# Altium integrated library Dallas Communication Transceiver.IntLib: 39 symbols
Pins are listed as number, name and electrical type; pins without a type are passive.

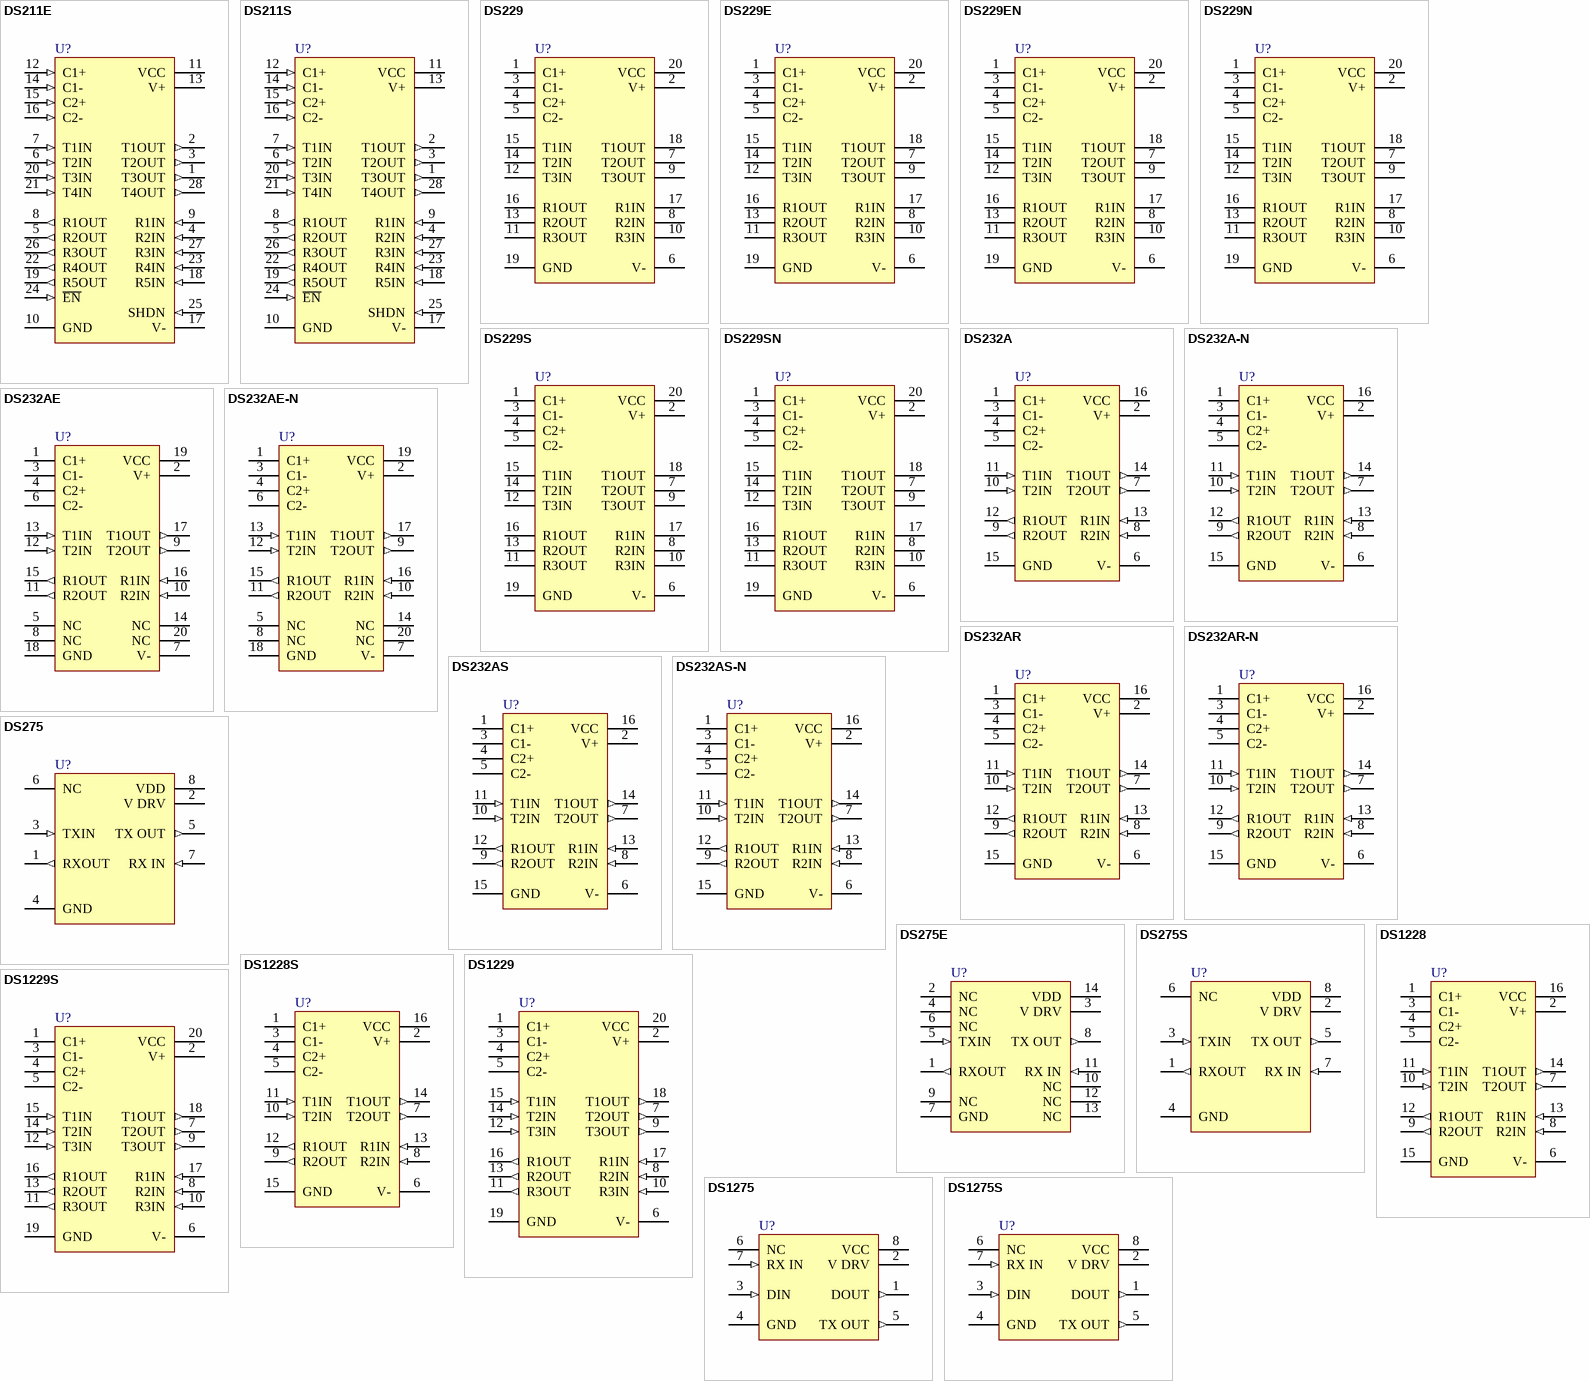
[diagram p0: symbols DS211E to DS1275S]

## DS211E
designator U?
4 Driver/5 Receiver RS-232 Serial Port; Published: 13-Oct-2000; LatestRevisionDate: 20-Nov-2009; LatestRevisionNote: IPC-7351 Footprint Added.; DatasheetVersion: 15-Mar-1995; PackageVersion: Feb-1999; PackageReference: SSOP28; Publisher: Altium Limited; PackageDescription: 28-Pin Plastic Small Outline Package 0.65 mm Pitch; Code_JEDEC: MO-150-AH; Code_IPC: SOP65P780-28; ComponentLink1Description: Manufacturer Link; ComponentLink1URL: http://www.maxim-ic.com/
footprint SSOP28_N (SOP, 28-Leads, Body 10.2x5.3mm, Pitch 0.65mm, IPC Medium Density)
footprint SSOP28_L (SOP, 28-Leads, Body 10.2x5.3mm, Pitch 0.65mm, IPC High Density)
footprint SSOP28_M (SOP, 28-Leads, Body 10.2x5.3mm, Pitch 0.65mm, IPC Low Density)
pins: 1 T3OUT (out), 2 T1OUT (out), 3 T2OUT (out), 4 R2IN (in), 5 R2OUT (out), 6 T2IN (in), 7 T1IN (in), 8 R1OUT (out), 9 R1IN (in), 10 GND (power), 11 VCC (power), 12 C1+ (in), 13 V+ (power), 14 C1- (in), 15 C2+ (in), 16 C2- (in), 17 V- (power), 18 R5IN (in), 19 R5OUT (out), 20 T3IN (in), 21 T4IN (in), 22 R4OUT (out), 23 R4IN (in), 24 ~{EN} (in), 25 SHDN (in), 26 R3OUT (out), 27 R3IN (in), 28 T4OUT (out)

## DS211S
designator U?
4 Driver/5 Receiver RS-232 Serial Port; Published: 13-Oct-2000; LatestRevisionDate: 13-Apr-2006; LatestRevisionNote: IPC-7351 Footprint Added.; DatasheetVersion: 15-Mar-1995; PackageVersion: 1999; PackageReference: SOIC28N; Publisher: Altium Limited; PackageDescription: 28-Pin Small Outline Integrated Circuit 1.27 mm Pitch; ComponentLink1Description: Manufacturer Link; ComponentLink1URL: http://www.maxim-ic.com/
footprint SOIC28N_N (SOIC, 28-Leads, Body 17.9x7.5mm, Pitch 1.27mm, IPC Medium Density)
footprint SOIC28N_L (SOIC, 28-Leads, Body 17.9x7.5mm, Pitch 1.27mm, IPC High Density)
footprint SOIC28N_M (SOIC, 28-Leads, Body 17.9x7.5mm, Pitch 1.27mm, IPC Low Density)
pins: 1 T3OUT (out), 2 T1OUT (out), 3 T2OUT (out), 4 R2IN (in), 5 R2OUT (out), 6 T2IN (in), 7 T1IN (in), 8 R1OUT (out), 9 R1IN (in), 10 GND (power), 11 VCC (power), 12 C1+ (in), 13 V+ (power), 14 C1- (in), 15 C2+ (in), 16 C2- (in), 17 V- (power), 18 R5IN (in), 19 R5OUT (out), 20 T3IN (in), 21 T4IN (in), 22 R4OUT (out), 23 R4IN (in), 24 ~{EN} (in), 25 SHDN (in), 26 R3OUT (out), 27 R3IN (in), 28 T4OUT (out)

## DS229
designator U?
Triple RS-232 Transmitter/Receiver; Published: 13-Oct-2000; LatestRevisionDate: 17-Jul-2002; LatestRevisionNote: Re-released for DXP Platform.; DatasheetVersion: 19-Feb-1998; PackageVersion: 1999; PackageReference: DIP20; Publisher: Altium Limited; PackageDescription: DIP, 20-Pin, Row Spacing 7.62 mm, Pitch 2.54 mm; Code_JEDEC: MS-001-AD; ComponentLink1Description: Manufacturer Link; ComponentLink1URL: http://www.maxim-ic.com/; ComponentLink2Description: Datasheet; ComponentLink2URL: http://pdfserv.maxim-ic.com/en/ds/DS229.pdf
footprint DIP20 (DIP, 20-Leads, Row Spacing 7.62mm, Pitch 2.54mm, Body 25.53x6.48mm)
pins: 1 C1+, 2 V+ (power), 3 C1-, 4 C2+, 5 C2-, 6 V- (power), 7 T2OUT, 8 R2IN, 9 T3OUT, 10 R3IN, 11 R3OUT, 12 T3IN, 13 R2OUT, 14 T2IN, 15 T1IN, 16 R1OUT, 17 R1IN, 18 T1OUT, 19 GND (power), 20 VCC (power)

## DS229E
designator U?
Triple RS-232 Transmitter/Receiver; Published: 13-Oct-2000; LatestRevisionDate: 20-Nov-2009; LatestRevisionNote: IPC-7351 Footprint Added.; DatasheetVersion: 19-Feb-1998; PackageReference: TSSOP20; Publisher: Altium Limited; PackageDescription: 20-Pin Thin Small Outline Package 0.65 mm Pitch; ComponentLink1Description: Manufacturer Link; ComponentLink1URL: http://www.maxim-ic.com/; ComponentLink2Description: Datasheet; ComponentLink2URL: http://pdfserv.maxim-ic.com/en/ds/DS229.pdf
footprint TSSOP20_N (TSOP, 20-Leads, Body 6.5x4.4mm, Pitch 0.65mm, IPC Medium Density)
footprint TSSOP20_L (TSOP, 20-Leads, Body 6.5x4.4mm, Pitch 0.65mm, IPC High Density)
footprint TSSOP20_M (TSOP, 20-Leads, Body 6.5x4.4mm, Pitch 0.65mm, IPC Low Density)
pins: 1 C1+, 2 V+ (power), 3 C1-, 4 C2+, 5 C2-, 6 V- (power), 7 T2OUT, 8 R2IN, 9 T3OUT, 10 R3IN, 11 R3OUT, 12 T3IN, 13 R2OUT, 14 T2IN, 15 T1IN, 16 R1OUT, 17 R1IN, 18 T1OUT, 19 GND (power), 20 VCC (power)

## DS229EN
designator U?
Triple RS-232 Transmitter/Receiver; Published: 13-Oct-2000; LatestRevisionDate: 20-Nov-2009; LatestRevisionNote: IPC-7351 Footprint Added.; DatasheetVersion: 19-Feb-1998; PackageReference: TSSOP20; Publisher: Altium Limited; PackageDescription: 20-Pin Thin Small Outline Package 0.65 mm Pitch; ComponentLink1Description: Manufacturer Link; ComponentLink1URL: http://www.maxim-ic.com/; ComponentLink2Description: Datasheet; ComponentLink2URL: http://pdfserv.maxim-ic.com/en/ds/DS229.pdf
footprint TSSOP20_N (TSOP, 20-Leads, Body 6.5x4.4mm, Pitch 0.65mm, IPC Medium Density)
footprint TSSOP20_L (TSOP, 20-Leads, Body 6.5x4.4mm, Pitch 0.65mm, IPC High Density)
footprint TSSOP20_M (TSOP, 20-Leads, Body 6.5x4.4mm, Pitch 0.65mm, IPC Low Density)
pins: 1 C1+, 2 V+ (power), 3 C1-, 4 C2+, 5 C2-, 6 V- (power), 7 T2OUT, 8 R2IN, 9 T3OUT, 10 R3IN, 11 R3OUT, 12 T3IN, 13 R2OUT, 14 T2IN, 15 T1IN, 16 R1OUT, 17 R1IN, 18 T1OUT, 19 GND (power), 20 VCC (power)

## DS229N
designator U?
Triple RS-232 Transmitter/Receiver; Published: 13-Oct-2000; LatestRevisionDate: 17-Jul-2002; LatestRevisionNote: Re-released for DXP Platform.; DatasheetVersion: 19-Feb-1998; PackageVersion: 1999; PackageReference: DIP20; Publisher: Altium Limited; PackageDescription: DIP, 20-Pin, Row Spacing 7.62 mm, Pitch 2.54 mm; Code_JEDEC: MS-001-AD; ComponentLink1Description: Manufacturer Link; ComponentLink1URL: http://www.maxim-ic.com/; ComponentLink2Description: Datasheet; ComponentLink2URL: http://pdfserv.maxim-ic.com/en/ds/DS229.pdf
footprint DIP20 (DIP, 20-Leads, Row Spacing 7.62mm, Pitch 2.54mm, Body 25.53x6.48mm)
pins: 1 C1+, 2 V+ (power), 3 C1-, 4 C2+, 5 C2-, 6 V- (power), 7 T2OUT, 8 R2IN, 9 T3OUT, 10 R3IN, 11 R3OUT, 12 T3IN, 13 R2OUT, 14 T2IN, 15 T1IN, 16 R1OUT, 17 R1IN, 18 T1OUT, 19 GND (power), 20 VCC (power)

## DS229S
designator U?
Triple RS-232 Transmitter/Receiver; Published: 13-Oct-2000; LatestRevisionDate: 13-Apr-2006; LatestRevisionNote: IPC-7351 Footprint Added.; DatasheetVersion: 19-Feb-1998; PackageVersion: 1999; PackageReference: SOIC20; Publisher: Altium Limited; PackageDescription: 20-Pin Small Outline Integrated Circuit 1.27 mm Pitch; ComponentLink1Description: Manufacturer Link; ComponentLink1URL: http://www.maxim-ic.com/; ComponentLink2Description: Datasheet; ComponentLink2URL: http://pdfserv.maxim-ic.com/en/ds/DS229.pdf
footprint SOIC20_N (SOIC, 20-Leads, Body 12.8x7.5mm, Pitch 1.27mm, IPC Medium Density)
footprint SOIC20_L (SOIC, 20-Leads, Body 12.8x7.5mm, Pitch 1.27mm, IPC High Density)
footprint SOIC20_M (SOIC, 20-Leads, Body 12.8x7.5mm, Pitch 1.27mm, IPC Low Density)
pins: 1 C1+, 2 V+ (power), 3 C1-, 4 C2+, 5 C2-, 6 V- (power), 7 T2OUT, 8 R2IN, 9 T3OUT, 10 R3IN, 11 R3OUT, 12 T3IN, 13 R2OUT, 14 T2IN, 15 T1IN, 16 R1OUT, 17 R1IN, 18 T1OUT, 19 GND (power), 20 VCC (power)

## DS229SN
designator U?
Triple RS-232 Transmitter/Receiver; Published: 13-Oct-2000; LatestRevisionDate: 13-Apr-2006; LatestRevisionNote: IPC-7351 Footprint Added.; DatasheetVersion: 19-Feb-1998; PackageVersion: 1999; PackageReference: SOIC20; Publisher: Altium Limited; PackageDescription: 20-Pin Small Outline Integrated Circuit 1.27 mm Pitch; ComponentLink1Description: Manufacturer Link; ComponentLink1URL: http://www.maxim-ic.com/; ComponentLink2Description: Datasheet; ComponentLink2URL: http://pdfserv.maxim-ic.com/en/ds/DS229.pdf
footprint SOIC20_N (SOIC, 20-Leads, Body 12.8x7.5mm, Pitch 1.27mm, IPC Medium Density)
footprint SOIC20_L (SOIC, 20-Leads, Body 12.8x7.5mm, Pitch 1.27mm, IPC High Density)
footprint SOIC20_M (SOIC, 20-Leads, Body 12.8x7.5mm, Pitch 1.27mm, IPC Low Density)
pins: 1 C1+, 2 V+ (power), 3 C1-, 4 C2+, 5 C2-, 6 V- (power), 7 T2OUT, 8 R2IN, 9 T3OUT, 10 R3IN, 11 R3OUT, 12 T3IN, 13 R2OUT, 14 T2IN, 15 T1IN, 16 R1OUT, 17 R1IN, 18 T1OUT, 19 GND (power), 20 VCC (power)

## DS232A
designator U?
Dual RS-232 Transmitter/Receiver; Published: 13-Oct-2000; LatestRevisionDate: 17-Jul-2002; LatestRevisionNote: Re-released for DXP Platform.; DatasheetVersion: 19-Feb-1998; PackageVersion: 1999; PackageReference: DIP16; Publisher: Altium Limited; PackageDescription: DIP, 16-Pin, Row Spacing 7.62 mm, Pitch 2.54 mm; ComponentLink1Description: Manufacturer Link; ComponentLink1URL: http://www.maxim-ic.com/; ComponentLink2Description: Datasheet; ComponentLink2URL: http://pdfserv.maxim-ic.com/en/ds/DS232A.pdf
footprint DIP16 (DIP, 16-Leads, Row Spacing 7.62mm, Pitch 2.54mm, Body 19.31x6.35mm)
pins: 1 C1+, 2 V+ (power), 3 C1-, 4 C2+, 5 C2-, 6 V- (power), 7 T2OUT (out), 8 R2IN (in), 9 R2OUT (out), 10 T2IN (in), 11 T1IN (in), 12 R1OUT (out), 13 R1IN (in), 14 T1OUT (out), 15 GND (power), 16 VCC (power)

## DS232A-N
designator U?
Dual RS-232 Transmitter/Receiver; Published: 13-Oct-2000; LatestRevisionDate: 17-Jul-2002; LatestRevisionNote: Re-released for DXP Platform.; DatasheetVersion: 19-Feb-1998; PackageVersion: 1999; PackageReference: DIP16; Publisher: Altium Limited; PackageDescription: DIP, 16-Pin, Row Spacing 7.62 mm, Pitch 2.54 mm; ComponentLink1Description: Manufacturer Link; ComponentLink1URL: http://www.maxim-ic.com/; ComponentLink2Description: Datasheet; ComponentLink2URL: http://pdfserv.maxim-ic.com/en/ds/DS232A.pdf
footprint DIP16 (DIP, 16-Leads, Row Spacing 7.62mm, Pitch 2.54mm, Body 19.31x6.35mm)
pins: 1 C1+, 2 V+ (power), 3 C1-, 4 C2+, 5 C2-, 6 V- (power), 7 T2OUT (out), 8 R2IN (in), 9 R2OUT (out), 10 T2IN (in), 11 T1IN (in), 12 R1OUT (out), 13 R1IN (in), 14 T1OUT (out), 15 GND (power), 16 VCC (power)

## DS232AE
designator U?
Dual RS-232 Transmitter/Receiver; Note: Pin numbers 5, 8, 14 and 20 are Not Connected (NC); Published: 13-Oct-2000; LatestRevisionDate: 20-Nov-2009; LatestRevisionNote: IPC-7351 Footprint Added.; DatasheetVersion: 19-Feb-1998; PackageReference: TSSOP20; Publisher: Altium Limited; PackageDescription: 20-Pin Thin Small Outline Package 0.65 mm Pitch; ComponentLink1Description: Manufacturer Link; ComponentLink1URL: http://www.maxim-ic.com/; ComponentLink2Description: Datasheet; ComponentLink2URL: http://pdfserv.maxim-ic.com/en/ds/DS232A.pdf
footprint TSSOP20_N (TSOP, 20-Leads, Body 6.5x4.4mm, Pitch 0.65mm, IPC Medium Density)
footprint TSSOP20_L (TSOP, 20-Leads, Body 6.5x4.4mm, Pitch 0.65mm, IPC High Density)
footprint TSSOP20_M (TSOP, 20-Leads, Body 6.5x4.4mm, Pitch 0.65mm, IPC Low Density)
pins: 1 C1+, 2 V+ (power), 3 C1-, 4 C2+, 5 NC, 6 C2-, 7 V- (power), 8 NC, 9 T2OUT (out), 10 R2IN (in), 11 R2OUT (out), 12 T2IN (in), 13 T1IN (in), 14 NC, 15 R1OUT (out), 16 R1IN (in), 17 T1OUT (out), 18 GND (power), 19 VCC (power), 20 NC

## DS232AE-N
designator U?
Dual RS-232 Transmitter/Receiver; Note: Pin numbers 5, 8, 14 and 20 are Not Connected (NC); Published: 13-Oct-2000; LatestRevisionDate: 20-Nov-2009; LatestRevisionNote: IPC-7351 Footprint Added.; DatasheetVersion: 19-Feb-1998; PackageReference: TSSOP20; Publisher: Altium Limited; PackageDescription: 20-Pin Thin Small Outline Package 0.65 mm Pitch; ComponentLink1Description: Manufacturer Link; ComponentLink1URL: http://www.maxim-ic.com/; ComponentLink2Description: Datasheet; ComponentLink2URL: http://pdfserv.maxim-ic.com/en/ds/DS232A.pdf
footprint TSSOP20_N (TSOP, 20-Leads, Body 6.5x4.4mm, Pitch 0.65mm, IPC Medium Density)
footprint TSSOP20_L (TSOP, 20-Leads, Body 6.5x4.4mm, Pitch 0.65mm, IPC High Density)
footprint TSSOP20_M (TSOP, 20-Leads, Body 6.5x4.4mm, Pitch 0.65mm, IPC Low Density)
pins: 1 C1+, 2 V+ (power), 3 C1-, 4 C2+, 5 NC, 6 C2-, 7 V- (power), 8 NC, 9 T2OUT (out), 10 R2IN (in), 11 R2OUT (out), 12 T2IN (in), 13 T1IN (in), 14 NC, 15 R1OUT (out), 16 R1IN (in), 17 T1OUT (out), 18 GND (power), 19 VCC (power), 20 NC

## DS232AR
designator U?
Dual RS-232 Transmitter/Receiver; Published: 13-Oct-2000; LatestRevisionDate: 13-Apr-2006; LatestRevisionNote: IPC-7351 Footprint Added.; DatasheetVersion: 19-Feb-1998; PackageVersion: 1999; PackageReference: SOIC16N; Publisher: Altium Limited; PackageDescription: 16-Pin Small Outline Integrated Circuit 1.27 mm Pitch; Code_IPC: SOIC127P600-16; ComponentLink1Description: Manufacturer Link; ComponentLink1URL: http://www.maxim-ic.com/; ComponentLink2Description: Datasheet; ComponentLink2URL: http://pdfserv.maxim-ic.com/en/ds/DS232A.pdf
footprint SOIC16N_N (SOIC, 16-Leads, Body 9.9x3.9mm, Pitch 1.27mm, IPC Medium Density)
footprint SOIC16N_L (SOIC, 16-Leads, Body 9.9x3.9mm, Pitch 1.27mm, IPC High Density)
footprint SOIC16N_M (SOIC, 16-Leads, Body 9.9x3.9mm, Pitch 1.27mm, IPC Low Density)
pins: 1 C1+, 2 V+ (power), 3 C1-, 4 C2+, 5 C2-, 6 V- (power), 7 T2OUT (out), 8 R2IN (in), 9 R2OUT (out), 10 T2IN (in), 11 T1IN (in), 12 R1OUT (out), 13 R1IN (in), 14 T1OUT (out), 15 GND (power), 16 VCC (power)

## DS232AR-N
designator U?
Dual RS-232 Transmitter/Receiver; Published: 13-Oct-2000; LatestRevisionDate: 13-Apr-2006; LatestRevisionNote: IPC-7351 Footprint Added.; DatasheetVersion: 19-Feb-1998; PackageVersion: 1999; PackageReference: SOIC16N; Publisher: Altium Limited; PackageDescription: 16-Pin Small Outline Integrated Circuit 1.27 mm Pitch; Code_IPC: SOIC127P600-16; ComponentLink1Description: Manufacturer Link; ComponentLink1URL: http://www.maxim-ic.com/; ComponentLink2Description: Datasheet; ComponentLink2URL: http://pdfserv.maxim-ic.com/en/ds/DS232A.pdf
footprint SOIC16N_N (SOIC, 16-Leads, Body 9.9x3.9mm, Pitch 1.27mm, IPC Medium Density)
footprint SOIC16N_L (SOIC, 16-Leads, Body 9.9x3.9mm, Pitch 1.27mm, IPC High Density)
footprint SOIC16N_M (SOIC, 16-Leads, Body 9.9x3.9mm, Pitch 1.27mm, IPC Low Density)
pins: 1 C1+, 2 V+ (power), 3 C1-, 4 C2+, 5 C2-, 6 V- (power), 7 T2OUT (out), 8 R2IN (in), 9 R2OUT (out), 10 T2IN (in), 11 T1IN (in), 12 R1OUT (out), 13 R1IN (in), 14 T1OUT (out), 15 GND (power), 16 VCC (power)

## DS232AS
designator U?
Dual RS-232 Transmitter/Receiver; Published: 13-Oct-2000; LatestRevisionDate: 13-Apr-2006; LatestRevisionNote: IPC-7351 Footprint Added.; DatasheetVersion: 19-Feb-1998; PackageVersion: 1999; PackageReference: SOIC16W; Publisher: Altium Limited; PackageDescription: 16-Pin Small Outline Integrated Circuit 1.27 mm Pitch; ComponentLink1Description: Manufacturer Link; ComponentLink1URL: http://www.maxim-ic.com/; ComponentLink2Description: Datasheet; ComponentLink2URL: http://pdfserv.maxim-ic.com/en/ds/DS232A.pdf
footprint SOIC16W_N (SOIC, 16-Leads, Body 10.3x7.5mm, Pitch 1.27mm, IPC Medium Density)
footprint SOIC16W_L (SOIC, 16-Leads, Body 10.3x7.5mm, Pitch 1.27mm, IPC High Density)
footprint SOIC16W_M (SOIC, 16-Leads, Body 10.3x7.5mm, Pitch 1.27mm, IPC Low Density)
pins: 1 C1+, 2 V+ (power), 3 C1-, 4 C2+, 5 C2-, 6 V- (power), 7 T2OUT (out), 8 R2IN (in), 9 R2OUT (out), 10 T2IN (in), 11 T1IN (in), 12 R1OUT (out), 13 R1IN (in), 14 T1OUT (out), 15 GND (power), 16 VCC (power)

## DS232AS-N
designator U?
Dual RS-232 Transmitter/Receiver; Published: 13-Oct-2000; LatestRevisionDate: 13-Apr-2006; LatestRevisionNote: IPC-7351 Footprint Added.; DatasheetVersion: 19-Feb-1998; PackageVersion: 1999; PackageReference: SOIC16W; Publisher: Altium Limited; PackageDescription: 16-Pin Small Outline Integrated Circuit 1.27 mm Pitch; ComponentLink1Description: Manufacturer Link; ComponentLink1URL: http://www.maxim-ic.com/; ComponentLink2Description: Datasheet; ComponentLink2URL: http://pdfserv.maxim-ic.com/en/ds/DS232A.pdf
footprint SOIC16W_N (SOIC, 16-Leads, Body 10.3x7.5mm, Pitch 1.27mm, IPC Medium Density)
footprint SOIC16W_L (SOIC, 16-Leads, Body 10.3x7.5mm, Pitch 1.27mm, IPC High Density)
footprint SOIC16W_M (SOIC, 16-Leads, Body 10.3x7.5mm, Pitch 1.27mm, IPC Low Density)
pins: 1 C1+, 2 V+ (power), 3 C1-, 4 C2+, 5 C2-, 6 V- (power), 7 T2OUT (out), 8 R2IN (in), 9 R2OUT (out), 10 T2IN (in), 11 T1IN (in), 12 R1OUT (out), 13 R1IN (in), 14 T1OUT (out), 15 GND (power), 16 VCC (power)

## DS275
designator U?
Line-Powered RS-232 Transceiver Chip; Note: Pin number 6 is Not Connected (NC); Published: 13-Oct-2000; LatestRevisionDate: 17-Jul-2002; LatestRevisionNote: Re-released for DXP Platform.; DatasheetVersion: 6-Mar-1998; PackageVersion: 1999; PackageReference: DIP8; Publisher: Altium Limited; PackageDescription: DIP, 8-Pin, Row Spacing 7.62 mm, Pitch 2.54 mm; ComponentLink1Description: Manufacturer Link; ComponentLink1URL: http://www.maxim-ic.com/; ComponentLink2Description: Datasheet; ComponentLink2URL: http://pdfserv.maxim-ic.com/en/ds/DS275.pdf
footprint DIP8 (DIP, 8-Leads, Row Spacing 7.62mm, Pitch 2.54mm, Body 9.65x6.35mm)
pins: 1 RXOUT (out), 2 V DRV (power), 3 TXIN (in), 4 GND (power), 5 TX OUT (out), 6 NC, 7 RX IN (in), 8 VDD (power)

## DS275E
designator U?
Line-Powered RS-232 Transceiver Chip; Note: Pin numbers 2, 4, 6, 9, 10, 12 and 13 are Not Connected (NC); Published: 13-Oct-2000; LatestRevisionDate: 20-Nov-2009; LatestRevisionNote: IPC-7351 Footprint Added.; DatasheetVersion: 6-Mar-1998; PackageReference: TSSOP14; Publisher: Altium Limited; PackageDescription: 14-Pin Thin Small Outline Package 0.65 mm Pitch; ComponentLink1Description: Manufacturer Link; ComponentLink1URL: http://www.maxim-ic.com/; ComponentLink2Description: Datasheet; ComponentLink2URL: http://pdfserv.maxim-ic.com/en/ds/DS275.pdf
footprint TSSOP14_N (TSOP, 14-Leads, Body 5x4.4mm, Pitch 0.65mm, IPC Medium Density)
footprint TSSOP14_L (TSOP, 14-Leads, Body 5x4.4mm, Pitch 0.65mm, IPC High Density)
footprint TSSOP14_M (TSOP, 14-Leads, Body 5x4.4mm, Pitch 0.65mm, IPC Low Density)
pins: 1 RXOUT (out), 2 NC, 3 V DRV (power), 4 NC, 5 TXIN (in), 6 NC, 7 GND (power), 8 TX OUT (out), 9 NC, 10 NC, 11 RX IN (in), 12 NC, 13 NC, 14 VDD (power)

## DS275S
designator U?
Line-Powered RS-232 Transceiver Chip; Note: Pin number 6 is Not Connected (NC); Published: 13-Oct-2000; LatestRevisionDate: 13-Apr-2006; LatestRevisionNote: IPC-7351 Footprint Added.; DatasheetVersion: 6-Mar-1998; PackageVersion: 1999; PackageReference: SOIC8N; Publisher: Altium Limited; PackageDescription: 8-Pin Small Outline Integrated Circuit 1.27 mm Pitch; Code_IPC: SOIC127P600-8; ComponentLink1Description: Manufacturer Link; ComponentLink1URL: http://www.maxim-ic.com/; ComponentLink2Description: Datasheet; ComponentLink2URL: http://pdfserv.maxim-ic.com/en/ds/DS275.pdf
footprint SOIC8N_N (SOIC, 8-Leads, Body 4.9x3.9mm, Pitch 1.27mm, IPC Medium Density)
footprint SOIC8N_L (SOIC, 8-Leads, Body 4.9x3.9mm, Pitch 1.27mm, IPC High Density)
footprint SOIC8N_M (SOIC, 8-Leads, Body 4.9x3.9mm, Pitch 1.27mm, IPC Low Density)
pins: 1 RXOUT (out), 2 V DRV (power), 3 TXIN (in), 4 GND (power), 5 TX OUT (out), 6 NC, 7 RX IN (in), 8 VDD (power)

## DS1228
designator U?
+5V Powered Dual RS-232 Transmitter/Receiver; Published: 13-Oct-2000; LatestRevisionDate: 17-Jul-2002; LatestRevisionNote: Re-released for DXP Platform.; DatasheetVersion: 1989; PackageVersion: 1999; PackageReference: DIP16; Publisher: Altium Limited; PackageDescription: DIP, 16-Pin, Row Spacing 7.62 mm, Pitch 2.54 mm; ComponentLink1Description: Manufacturer Link; ComponentLink1URL: http://www.maxim-ic.com/
footprint DIP16 (DIP, 16-Leads, Row Spacing 7.62mm, Pitch 2.54mm, Body 19.31x6.35mm)
pins: 1 C1+, 2 V+ (power), 3 C1-, 4 C2+, 5 C2-, 6 V- (power), 7 T2OUT (out), 8 R2IN (in), 9 R2OUT (out), 10 T2IN (in), 11 T1IN (in), 12 R1OUT (out), 13 R1IN (in), 14 T1OUT (out), 15 GND (power), 16 VCC (power)

## DS1228S
designator U?
+5V Powered Dual RS-232 Transmitter/Receiver; Published: 13-Oct-2000; LatestRevisionDate: 13-Apr-2006; LatestRevisionNote: IPC-7351 Footprint Added.; DatasheetVersion: 1989; PackageVersion: 1999; PackageReference: SOIC16W; Publisher: Altium Limited; PackageDescription: 16-Pin Small Outline Integrated Circuit 1.27 mm Pitch; ComponentLink1Description: Manufacturer Link; ComponentLink1URL: http://www.maxim-ic.com/
footprint SOIC16W_N (SOIC, 16-Leads, Body 10.3x7.5mm, Pitch 1.27mm, IPC Medium Density)
footprint SOIC16W_L (SOIC, 16-Leads, Body 10.3x7.5mm, Pitch 1.27mm, IPC High Density)
footprint SOIC16W_M (SOIC, 16-Leads, Body 10.3x7.5mm, Pitch 1.27mm, IPC Low Density)
pins: 1 C1+, 2 V+ (power), 3 C1-, 4 C2+, 5 C2-, 6 V- (power), 7 T2OUT (out), 8 R2IN (in), 9 R2OUT (out), 10 T2IN (in), 11 T1IN (in), 12 R1OUT (out), 13 R1IN (in), 14 T1OUT (out), 15 GND (power), 16 VCC (power)

## DS1229
designator U?
+5V Powered Triple RS-232 Transmitter/Receiver; Published: 13-Oct-2000; LatestRevisionDate: 17-Jul-2002; LatestRevisionNote: Re-released for DXP Platform.; DatasheetVersion: 17-Feb-1992; PackageVersion: 1999; PackageReference: DIP20; Publisher: Altium Limited; PackageDescription: DIP, 20-Pin, Row Spacing 7.62 mm, Pitch 2.54 mm; Code_JEDEC: MS-001-AD; ComponentLink1Description: Manufacturer Link; ComponentLink1URL: http://www.maxim-ic.com/
footprint DIP20 (DIP, 20-Leads, Row Spacing 7.62mm, Pitch 2.54mm, Body 25.53x6.48mm)
pins: 1 C1+, 2 V+ (power), 3 C1-, 4 C2+, 5 C2-, 6 V- (power), 7 T2OUT (out), 8 R2IN (in), 9 T3OUT (out), 10 R3IN (in), 11 R3OUT (out), 12 T3IN (in), 13 R2OUT (out), 14 T2IN (in), 15 T1IN (in), 16 R1OUT (out), 17 R1IN (in), 18 T1OUT (out), 19 GND (power), 20 VCC (power)

## DS1229S
designator U?
+5V Powered Triple RS-232 Transmitter/Receiver; Published: 13-Oct-2000; LatestRevisionDate: 13-Apr-2006; LatestRevisionNote: IPC-7351 Footprint Added.; DatasheetVersion: 17-Feb-1992; PackageVersion: 1999; PackageReference: SOIC20; Publisher: Altium Limited; PackageDescription: 20-Pin Small Outline Integrated Circuit 1.27 mm Pitch; ComponentLink1Description: Manufacturer Link; ComponentLink1URL: http://www.maxim-ic.com/
footprint SOIC20_N (SOIC, 20-Leads, Body 12.8x7.5mm, Pitch 1.27mm, IPC Medium Density)
footprint SOIC20_L (SOIC, 20-Leads, Body 12.8x7.5mm, Pitch 1.27mm, IPC High Density)
footprint SOIC20_M (SOIC, 20-Leads, Body 12.8x7.5mm, Pitch 1.27mm, IPC Low Density)
pins: 1 C1+, 2 V+ (power), 3 C1-, 4 C2+, 5 C2-, 6 V- (power), 7 T2OUT (out), 8 R2IN (in), 9 T3OUT (out), 10 R3IN (in), 11 R3OUT (out), 12 T3IN (in), 13 R2OUT (out), 14 T2IN (in), 15 T1IN (in), 16 R1OUT (out), 17 R1IN (in), 18 T1OUT (out), 19 GND (power), 20 VCC (power)

## DS1275
designator U?
Line-Powered RS-232 Transceiver Chip; Note: Pin number 6 is Not Connected (NC); Published: 13-Oct-2000; LatestRevisionDate: 17-Jul-2002; LatestRevisionNote: Re-released for DXP Platform.; DatasheetVersion: 5-Feb-1992; PackageVersion: 1999; PackageReference: DIP8; Publisher: Altium Limited; PackageDescription: DIP, 8-Pin, Row Spacing 7.62 mm, Pitch 2.54 mm; ComponentLink1Description: Manufacturer Link; ComponentLink1URL: http://www.maxim-ic.com/
footprint DIP8 (DIP, 8-Leads, Row Spacing 7.62mm, Pitch 2.54mm, Body 9.65x6.35mm)
pins: 1 DOUT (out), 2 V DRV (power), 3 DIN (in), 4 GND (power), 5 TX OUT (out), 6 NC, 7 RX IN (in), 8 VCC (power)

## DS1275S
designator U?
Line-Powered RS-232 Transceiver Chip; Note: Pin number 6 is Not Connected (NC); Published: 13-Oct-2000; LatestRevisionDate: 13-Apr-2006; LatestRevisionNote: IPC-7351 Footprint Added.; DatasheetVersion: 5-Feb-1992; PackageVersion: 1999; PackageReference: SOIC8N; Publisher: Altium Limited; PackageDescription: 8-Pin Small Outline Integrated Circuit 1.27 mm Pitch; Code_IPC: SOIC127P600-8; ComponentLink1Description: Manufacturer Link; ComponentLink1URL: http://www.maxim-ic.com/
footprint SOIC8N_N (SOIC, 8-Leads, Body 4.9x3.9mm, Pitch 1.27mm, IPC Medium Density)
footprint SOIC8N_L (SOIC, 8-Leads, Body 4.9x3.9mm, Pitch 1.27mm, IPC High Density)
footprint SOIC8N_M (SOIC, 8-Leads, Body 4.9x3.9mm, Pitch 1.27mm, IPC Low Density)
pins: 1 DOUT (out), 2 V DRV (power), 3 DIN (in), 4 GND (power), 5 TX OUT (out), 6 NC, 7 RX IN (in), 8 VCC (power)

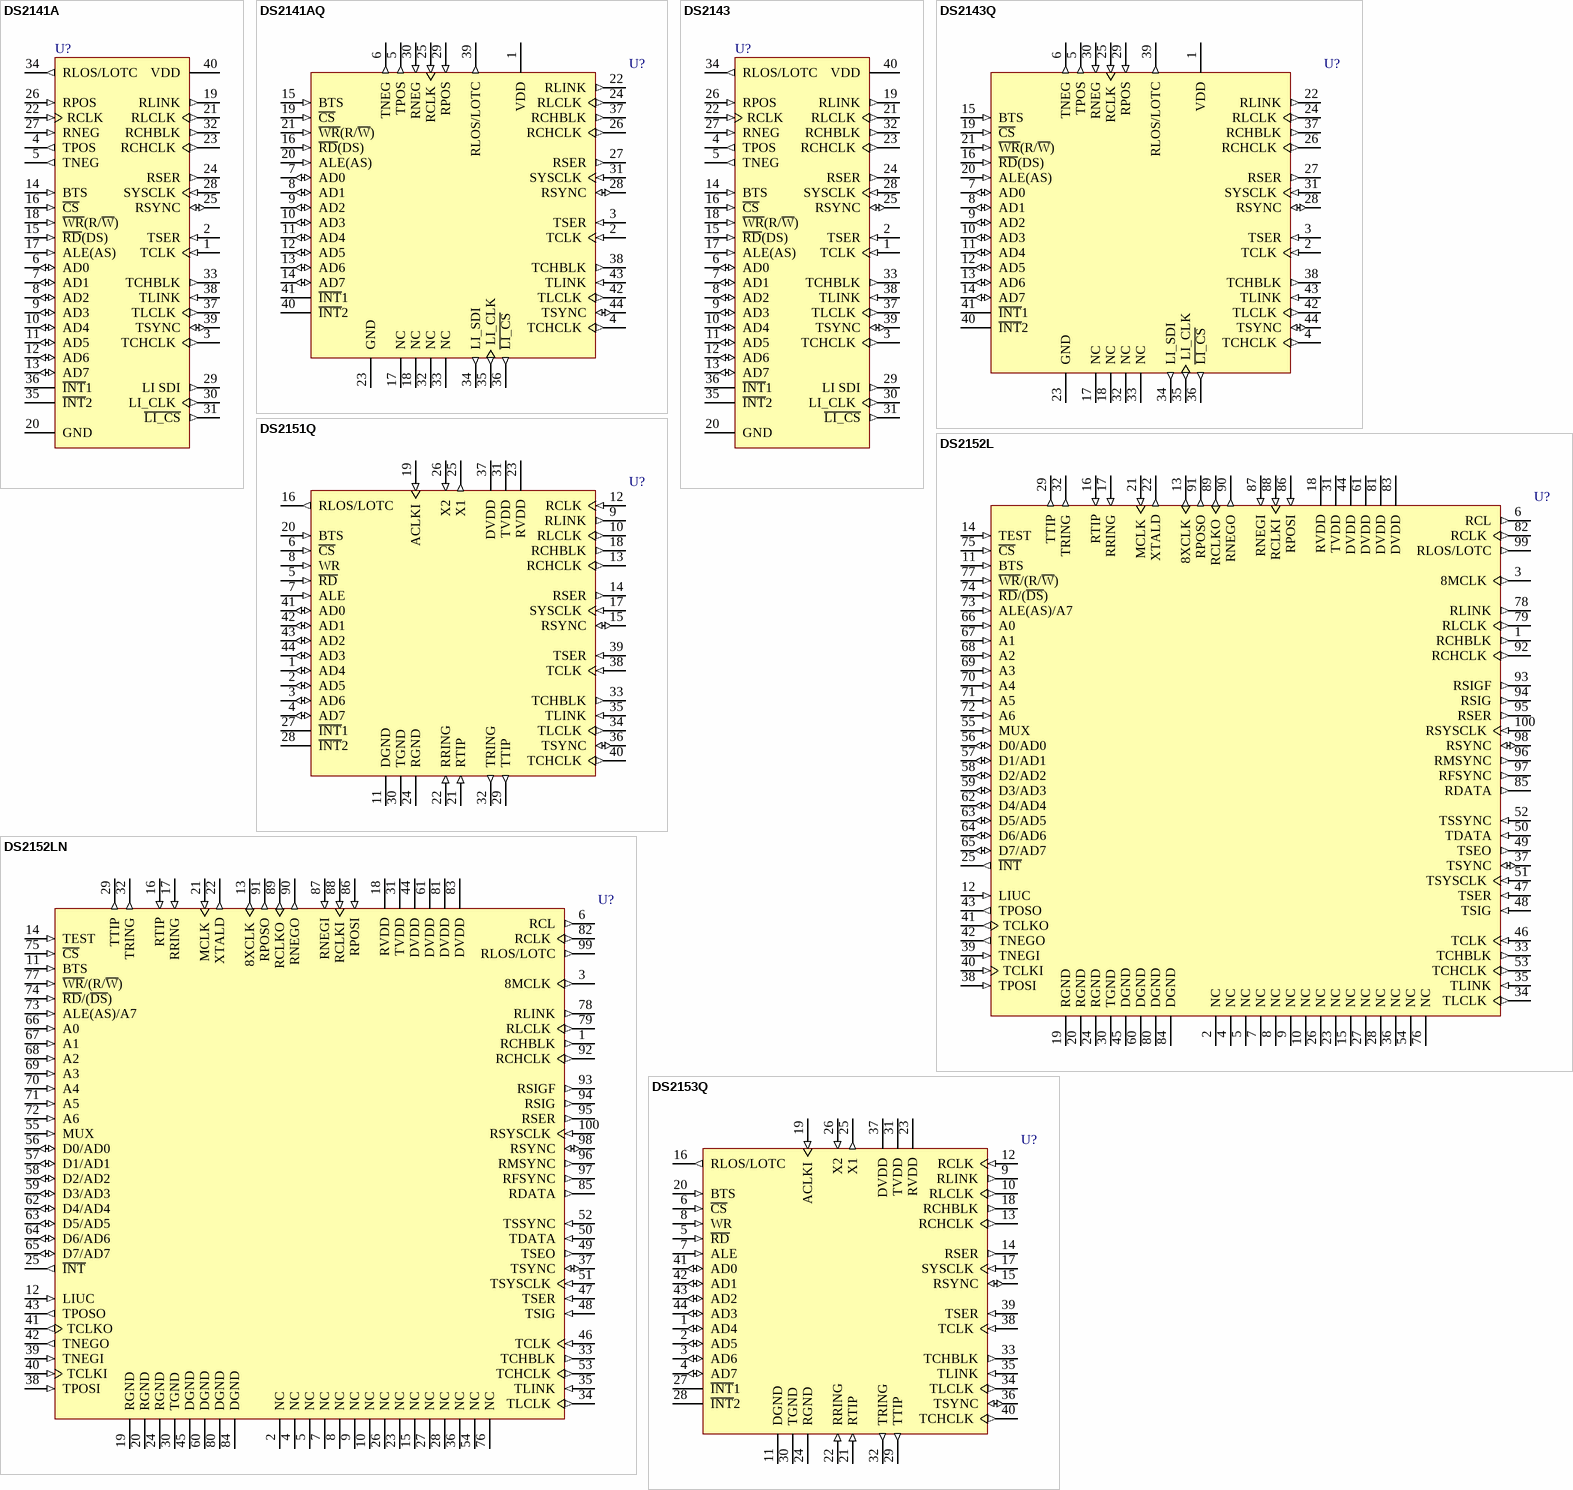
[diagram p1: symbols DS2141A to DS2153Q]

## DS2141A
designator U?
T1 Controller; Published: 13-Oct-2000; LatestRevisionDate: 17-Jul-2002; LatestRevisionNote: Re-released for DXP Platform.; DatasheetVersion: 26-Feb-1998; PackageVersion: 1998; PackageReference: DIP40A; Publisher: Altium Limited; PackageDescription: DIP, 40-Pin, Row Spacing 15.24 mm, Pitch 2.54 mm; ComponentLink1Description: Manufacturer Link; ComponentLink1URL: http://www.maxim-ic.com/; ComponentLink2Description: Datasheet; ComponentLink2URL: http://pdfserv.maxim-ic.com/en/ds/DS2141A.pdf
footprint DIP40A (DIP, 40-Leads, Row Spacing 15.24mm, Pitch 2.54mm, Body 52.2x13.84mm)
pins: 1 TCLK (in), 2 TSER (in), 3 TCHCLK (out), 4 TPOS (out), 5 TNEG (out), 6 AD0 (io), 7 AD1 (io), 8 AD2 (io), 9 AD3 (io), 10 AD4 (io), 11 AD5 (io), 12 AD6 (io), 13 AD7 (io), 14 BTS (in), 15 ~{RD}(DS) (in), 16 ~{CS} (in), 17 ALE(AS) (in), 18 ~{WR}(R/~{W}) (in), 19 RLINK (out), 20 GND (power), 21 RLCLK (out), 22 RCLK (in), 23 RCHCLK (out), 24 RSER (out), 25 RSYNC (io), 26 RPOS (in), 27 RNEG (in), 28 SYSCLK (in), 29 LI SDI (out), 30 LI_CLK (out), 31 ~{LI_CS} (out), 32 RCHBLK (out), 33 TCHBLK (out), 34 RLOS/LOTC (out), 35 ~{INT}2 (oc), 36 ~{INT}1 (oc), 37 TLCLK (out), 38 TLINK (in), 39 TSYNC (io), 40 VDD (power)

## DS2141AQ
designator U?
T1 Controller; Note: Pin numbers 17, 18, 32 and 33 are Not Connected (NC); Published: 13-Oct-2000; LatestRevisionDate: 13-Apr-2006; LatestRevisionNote: IPC-7351 Footprint Added.; DatasheetVersion: 26-Feb-1998; PackageVersion: 1999; PackageReference: PLCC44; Publisher: Altium Limited; PackageDescription: 44-Pin Leaded Chip Carrier 1.27 mm Pitch; Code_IPC: PLCC-44; ComponentLink1Description: Manufacturer Link; ComponentLink1URL: http://www.maxim-ic.com/; ComponentLink2Description: Datasheet; ComponentLink2URL: http://pdfserv.maxim-ic.com/en/ds/DS2141A.pdf
footprint PLCC44_N (Leaded Chip Carrier, 44-Leads, Body 16.6x16.6mm, Pitch 1.27mm, IPC Medium Density)
footprint PLCC44_L (Leaded Chip Carrier, 44-Leads, Body 16.6x16.6mm, Pitch 1.27mm, IPC High Density)
footprint PLCC44_M (Leaded Chip Carrier, 44-Leads, Body 16.6x16.6mm, Pitch 1.27mm, IPC Low Density)
pins: 1 VDD (power), 2 TCLK (in), 3 TSER (in), 4 TCHCLK (out), 5 TPOS (out), 6 TNEG (out), 7 AD0 (io), 8 AD1 (io), 9 AD2 (io), 10 AD3 (io), 11 AD4 (io), 12 AD5 (io), 13 AD6 (io), 14 AD7 (io), 15 BTS (in), 16 ~{RD}(DS) (in), 17 NC, 18 NC, 19 ~{CS} (in), 20 ALE(AS) (in), 21 ~{WR}(R/~{W}) (in), 22 RLINK (out), 23 GND (power), 24 RLCLK (out), 25 RCLK (in), 26 RCHCLK (out), 27 RSER (out), 28 RSYNC (io), 29 RPOS (in), 30 RNEG (in), 31 SYSCLK (in), 32 NC, 33 NC, 34 LI_SDI (out), 35 LI_CLK (out), 36 ~{LI_CS} (out), 37 RCHBLK (out), 38 TCHBLK (out), 39 RLOS/LOTC (out), 40 ~{INT}2 (oc), 41 ~{INT}1 (oc), 42 TLCLK (out), 43 TLINK (in), 44 TSYNC (io)

## DS2143
designator U?
E1 Controller; Published: 13-Oct-2000; LatestRevisionDate: 17-Jul-2002; LatestRevisionNote: Re-released for DXP Platform.; DatasheetVersion: 26-Feb-1998; PackageVersion: 1998; PackageReference: DIP40A; Publisher: Altium Limited; PackageDescription: DIP, 40-Pin, Row Spacing 15.24 mm, Pitch 2.54 mm; ComponentLink1Description: Manufacturer Link; ComponentLink1URL: http://www.maxim-ic.com/; ComponentLink2Description: Datasheet; ComponentLink2URL: http://pdfserv.maxim-ic.com/en/ds/DS2143-DS2143Q.pdf
footprint DIP40A (DIP, 40-Leads, Row Spacing 15.24mm, Pitch 2.54mm, Body 52.2x13.84mm)
pins: 1 TCLK (in), 2 TSER (in), 3 TCHCLK (out), 4 TPOS (out), 5 TNEG (out), 6 AD0 (io), 7 AD1 (io), 8 AD2 (io), 9 AD3 (io), 10 AD4 (io), 11 AD5 (io), 12 AD6 (io), 13 AD7 (io), 14 BTS (in), 15 ~{RD}(DS) (in), 16 ~{CS} (in), 17 ALE(AS) (in), 18 ~{WR}(R/~{W}) (in), 19 RLINK (out), 20 GND (power), 21 RLCLK (out), 22 RCLK (in), 23 RCHCLK (out), 24 RSER (out), 25 RSYNC (io), 26 RPOS (in), 27 RNEG (in), 28 SYSCLK (in), 29 LI SDI (out), 30 LI_CLK (out), 31 ~{LI_CS} (out), 32 RCHBLK (out), 33 TCHBLK (out), 34 RLOS/LOTC (out), 35 ~{INT}2 (oc), 36 ~{INT}1 (oc), 37 TLCLK (out), 38 TLINK (in), 39 TSYNC (io), 40 VDD (power)

## DS2143Q
designator U?
E1 Controller; Note: Pin numbers 17, 18, 32 and 33 are Not Connected (NC); Published: 13-Oct-2000; LatestRevisionDate: 13-Apr-2006; LatestRevisionNote: IPC-7351 Footprint Added.; DatasheetVersion: 26-Feb-1998; PackageVersion: 1999; PackageReference: PLCC44; Publisher: Altium Limited; PackageDescription: 44-Pin Leaded Chip Carrier 1.27 mm Pitch; Code_IPC: PLCC-44; ComponentLink1Description: Manufacturer Link; ComponentLink1URL: http://www.maxim-ic.com/; ComponentLink2Description: Datasheet; ComponentLink2URL: http://pdfserv.maxim-ic.com/en/ds/DS2143-DS2143Q.pdf
footprint PLCC44_N (Leaded Chip Carrier, 44-Leads, Body 16.6x16.6mm, Pitch 1.27mm, IPC Medium Density)
footprint PLCC44_L (Leaded Chip Carrier, 44-Leads, Body 16.6x16.6mm, Pitch 1.27mm, IPC High Density)
footprint PLCC44_M (Leaded Chip Carrier, 44-Leads, Body 16.6x16.6mm, Pitch 1.27mm, IPC Low Density)
pins: 1 VDD (power), 2 TCLK (in), 3 TSER (in), 4 TCHCLK (out), 5 TPOS (out), 6 TNEG (out), 7 AD0 (io), 8 AD1 (io), 9 AD2 (io), 10 AD3 (io), 11 AD4 (io), 12 AD5 (io), 13 AD6 (io), 14 AD7 (io), 15 BTS (in), 16 ~{RD}(DS) (in), 17 NC, 18 NC, 19 ~{CS} (in), 20 ALE(AS) (in), 21 ~{WR}(R/~{W}) (in), 22 RLINK (out), 23 GND (power), 24 RLCLK (out), 25 RCLK (in), 26 RCHCLK (out), 27 RSER (out), 28 RSYNC (io), 29 RPOS (in), 30 RNEG (in), 31 SYSCLK (in), 32 NC, 33 NC, 34 LI_SDI (out), 35 LI_CLK (out), 36 ~{LI_CS} (out), 37 RCHBLK (out), 38 TCHBLK (out), 39 RLOS/LOTC (out), 40 ~{INT}2 (oc), 41 ~{INT}1 (oc), 42 TLCLK (out), 43 TLINK (in), 44 TSYNC (io)

## DS2151Q
designator U?
T1 Single-Chip Transceiver; Published: 13-Oct-2000; LatestRevisionDate: 13-Apr-2006; LatestRevisionNote: IPC-7351 Footprint Added.; DatasheetVersion: 14-Mar-1994; PackageVersion: 1999; PackageReference: PLCC44; Publisher: Altium Limited; PackageDescription: 44-Pin Leaded Chip Carrier 1.27 mm Pitch; Code_IPC: PLCC-44; ComponentLink1Description: Manufacturer Link; ComponentLink1URL: http://www.maxim-ic.com/; ComponentLink2Description: Datasheet; ComponentLink2URL: http://pdfserv.maxim-ic.com/en/ds/DS2151Q.pdf
footprint PLCC44_N (Leaded Chip Carrier, 44-Leads, Body 16.6x16.6mm, Pitch 1.27mm, IPC Medium Density)
footprint PLCC44_L (Leaded Chip Carrier, 44-Leads, Body 16.6x16.6mm, Pitch 1.27mm, IPC High Density)
footprint PLCC44_M (Leaded Chip Carrier, 44-Leads, Body 16.6x16.6mm, Pitch 1.27mm, IPC Low Density)
pins: 1 AD4 (io), 2 AD5 (io), 3 AD6 (io), 4 AD7 (io), 5 ~{RD} (in), 6 ~{CS} (in), 7 ALE (in), 8 WR (in), 9 RLINK (out), 10 RLCLK (out), 11 DGND (power), 12 RCLK (in), 13 RCHCLK (out), 14 RSER (out), 15 RSYNC (io), 16 RLOS/LOTC (out), 17 SYSCLK (in), 18 RCHBLK (out), 19 ACLKI (in), 20 BTS (in), 21 RTIP (in), 22 RRING (in), 23 RVDD (power), 24 RGND (power), 25 X1 (out), 26 X2 (in), 27 ~{INT}1 (oc), 28 ~{INT}2 (oc), 29 TTIP (out), 30 TGND (power), 31 TVDD (power), 32 TRING (out), 33 TCHBLK (out), 34 TLCLK (out), 35 TLINK (in), 36 TSYNC (io), 37 DVDD (power), 38 TCLK (in), 39 TSER (in), 40 TCHCLK (out), 41 AD0 (io), 42 AD1 (io), 43 AD2 (io), 44 AD3 (io)

## DS2152L
designator U?
Enhanced T1 Single-Chip Transceiver; Note: Pin numbers 2, 4, 5, 7-10, 15, 23, 26-28, 36, 54 and 76 are Not Connected (NC); Published: 13-Oct-2000; LatestRevisionDate: 13-Apr-2006; LatestRevisionNote: IPC-7351 Footprint Added.; DatasheetVersion: 22-Sep-1999; PackageReference: LQFP100; Publisher: Altium Limited; PackageDescription: 100-Pin Thin Quad Flat Pack 0.5 mm Pitch; ComponentLink1Description: Manufacturer Link; ComponentLink1URL: http://www.maxim-ic.com/; ComponentLink2Description: Datasheet; ComponentLink2URL: http://pdfserv.maxim-ic.com/en/ds/DS2152.pdf
footprint LQFP100_N (Thin QFP, 100-Leads, Body 14x14mm, Pitch 0.5mm, IPC Medium Density)
footprint LQFP100_L (Thin QFP, 100-Leads, Body 14x14mm, Pitch 0.5mm, IPC High Density)
footprint LQFP100_M (Thin QFP, 100-Leads, Body 14x14mm, Pitch 0.5mm, IPC Low Density)
pins: 1 RCHBLK (out), 2 NC, 3 8MCLK (out), 4 NC, 5 NC, 6 RCL (out), 7 NC, 8 NC, 9 NC, 10 NC, 11 BTS (in), 12 LIUC (in), 13 8XCLK (out), 14 TEST (in), 15 NC, 16 RTIP (in), 17 RRING (in), 18 RVDD (power), 19 RGND (power), 20 RGND (power), 21 MCLK (in), 22 XTALD (out), 23 NC, 24 RGND (power), 25 ~{INT} (out), 26 NC, 27 NC, 28 NC, 29 TTIP (out), 30 TGND (power), 31 TVDD (power), 32 TRING (out), 33 TCHBLK (out), 34 TLCLK (out), 35 TLINK (in), 36 NC, 37 TSYNC (io), 38 TPOSI (in), 39 TNEGI (in), 40 TCLKI (in), 41 TCLKO (out), 42 TNEGO (out), 43 TPOSO (out), 44 DVDD (power), 45 DGND (power), 46 TCLK (in), 47 TSER (in), 48 TSIG (in), 49 TSEO (out), 50 TDATA (in), 51 TSYSCLK (in), 52 TSSYNC (in), 53 TCHCLK (out), 54 NC, 55 MUX (in), 56 D0/AD0 (io), 57 D1/AD1 (io), 58 D2/AD2 (io), 59 D3/AD3 (io), 60 DGND (power), 61 DVDD (power), 62 D4/AD4 (io), 63 D5/AD5 (io), 64 D6/AD6 (io), 65 D7/AD7 (io), 66 A0 (in), 67 A1 (in), 68 A2 (in), 69 A3 (in), 70 A4 (in), 71 A5 (in), 72 A6 (in), 73 ALE(AS)/A7 (in), 74 ~{RD}/(~{DS}) (in), 75 ~{CS} (in), 76 NC, 77 ~{WR}/(R/~{W}) (in), 78 RLINK (out), 79 RLCLK (out), 80 DGND (power), 81 DVDD (power), 82 RCLK (out), 83 DVDD (power), 84 DGND (power), 85 RDATA (out), 86 RPOSI (in), 87 RNEGI (in), 88 RCLKI (in), 89 RCLKO (out), 90 RNEGO (out), 91 RPOSO (out), 92 RCHCLK (out), 93 RSIGF (out), 94 RSIG (out), 95 RSER (out), 96 RMSYNC (out), 97 RFSYNC (out), 98 RSYNC (io), 99 RLOS/LOTC (out), 100 RSYSCLK (in)

## DS2152LN
designator U?
Enhanced T1 Single-Chip Transceiver; Note: Pin numbers 2, 4, 5, 7-10, 15, 23, 26-28, 36, 54 and 76 are Not Connected (NC); Published: 13-Oct-2000; LatestRevisionDate: 13-Apr-2006; LatestRevisionNote: IPC-7351 Footprint Added.; DatasheetVersion: 22-Sep-1999; PackageReference: LQFP100; Publisher: Altium Limited; PackageDescription: 100-Pin Thin Quad Flat Pack 0.5 mm Pitch; ComponentLink1Description: Manufacturer Link; ComponentLink1URL: http://www.maxim-ic.com/; ComponentLink2Description: Datasheet; ComponentLink2URL: http://pdfserv.maxim-ic.com/en/ds/DS2152.pdf
footprint LQFP100_N (Thin QFP, 100-Leads, Body 14x14mm, Pitch 0.5mm, IPC Medium Density)
footprint LQFP100_L (Thin QFP, 100-Leads, Body 14x14mm, Pitch 0.5mm, IPC High Density)
footprint LQFP100_M (Thin QFP, 100-Leads, Body 14x14mm, Pitch 0.5mm, IPC Low Density)
pins: 1 RCHBLK (out), 2 NC, 3 8MCLK (out), 4 NC, 5 NC, 6 RCL (out), 7 NC, 8 NC, 9 NC, 10 NC, 11 BTS (in), 12 LIUC (in), 13 8XCLK (out), 14 TEST (in), 15 NC, 16 RTIP (in), 17 RRING (in), 18 RVDD (power), 19 RGND (power), 20 RGND (power), 21 MCLK (in), 22 XTALD (out), 23 NC, 24 RGND (power), 25 ~{INT} (out), 26 NC, 27 NC, 28 NC, 29 TTIP (out), 30 TGND (power), 31 TVDD (power), 32 TRING (out), 33 TCHBLK (out), 34 TLCLK (out), 35 TLINK (in), 36 NC, 37 TSYNC (io), 38 TPOSI (in), 39 TNEGI (in), 40 TCLKI (in), 41 TCLKO (out), 42 TNEGO (out), 43 TPOSO (out), 44 DVDD (power), 45 DGND (power), 46 TCLK (in), 47 TSER (in), 48 TSIG (in), 49 TSEO (out), 50 TDATA (in), 51 TSYSCLK (in), 52 TSSYNC (in), 53 TCHCLK (out), 54 NC, 55 MUX (in), 56 D0/AD0 (io), 57 D1/AD1 (io), 58 D2/AD2 (io), 59 D3/AD3 (io), 60 DGND (power), 61 DVDD (power), 62 D4/AD4 (io), 63 D5/AD5 (io), 64 D6/AD6 (io), 65 D7/AD7 (io), 66 A0 (in), 67 A1 (in), 68 A2 (in), 69 A3 (in), 70 A4 (in), 71 A5 (in), 72 A6 (in), 73 ALE(AS)/A7 (in), 74 ~{RD}/(~{DS}) (in), 75 ~{CS} (in), 76 NC, 77 ~{WR}/(R/~{W}) (in), 78 RLINK (out), 79 RLCLK (out), 80 DGND (power), 81 DVDD (power), 82 RCLK (out), 83 DVDD (power), 84 DGND (power), 85 RDATA (out), 86 RPOSI (in), 87 RNEGI (in), 88 RCLKI (in), 89 RCLKO (out), 90 RNEGO (out), 91 RPOSO (out), 92 RCHCLK (out), 93 RSIGF (out), 94 RSIG (out), 95 RSER (out), 96 RMSYNC (out), 97 RFSYNC (out), 98 RSYNC (io), 99 RLOS/LOTC (out), 100 RSYSCLK (in)

## DS2153Q
designator U?
E1 Single-Chip Transceiver; Published: 13-Oct-2000; LatestRevisionDate: 13-Apr-2006; LatestRevisionNote: IPC-7351 Footprint Added.; DatasheetVersion: 15-Mar-1994; PackageVersion: 1999; PackageReference: PLCC44; Publisher: Altium Limited; PackageDescription: 44-Pin Leaded Chip Carrier 1.27 mm Pitch; Code_IPC: PLCC-44; ComponentLink1Description: Manufacturer Link; ComponentLink1URL: http://www.maxim-ic.com/; ComponentLink2Description: Datasheet; ComponentLink2URL: http://pdfserv.maxim-ic.com/en/ds/DS2153Q.pdf
footprint PLCC44_N (Leaded Chip Carrier, 44-Leads, Body 16.6x16.6mm, Pitch 1.27mm, IPC Medium Density)
footprint PLCC44_L (Leaded Chip Carrier, 44-Leads, Body 16.6x16.6mm, Pitch 1.27mm, IPC High Density)
footprint PLCC44_M (Leaded Chip Carrier, 44-Leads, Body 16.6x16.6mm, Pitch 1.27mm, IPC Low Density)
pins: 1 AD4 (io), 2 AD5 (io), 3 AD6 (io), 4 AD7 (io), 5 ~{RD} (in), 6 ~{CS} (in), 7 ALE (in), 8 WR (in), 9 RLINK (out), 10 RLCLK (out), 11 DGND (power), 12 RCLK (in), 13 RCHCLK (out), 14 RSER (out), 15 RSYNC (io), 16 RLOS/LOTC (out), 17 SYSCLK (in), 18 RCHBLK (out), 19 ACLKI (in), 20 BTS (in), 21 RTIP (in), 22 RRING (in), 23 RVDD (power), 24 RGND (power), 25 X1 (out), 26 X2 (in), 27 ~{INT}1 (oc), 28 ~{INT}2 (oc), 29 TTIP (out), 30 TGND (power), 31 TVDD (power), 32 TRING (out), 33 TCHBLK (out), 34 TLCLK (out), 35 TLINK (in), 36 TSYNC (io), 37 DVDD (power), 38 TCLK (in), 39 TSER (in), 40 TCHCLK (out), 41 AD0 (io), 42 AD1 (io), 43 AD2 (io), 44 AD3 (io)

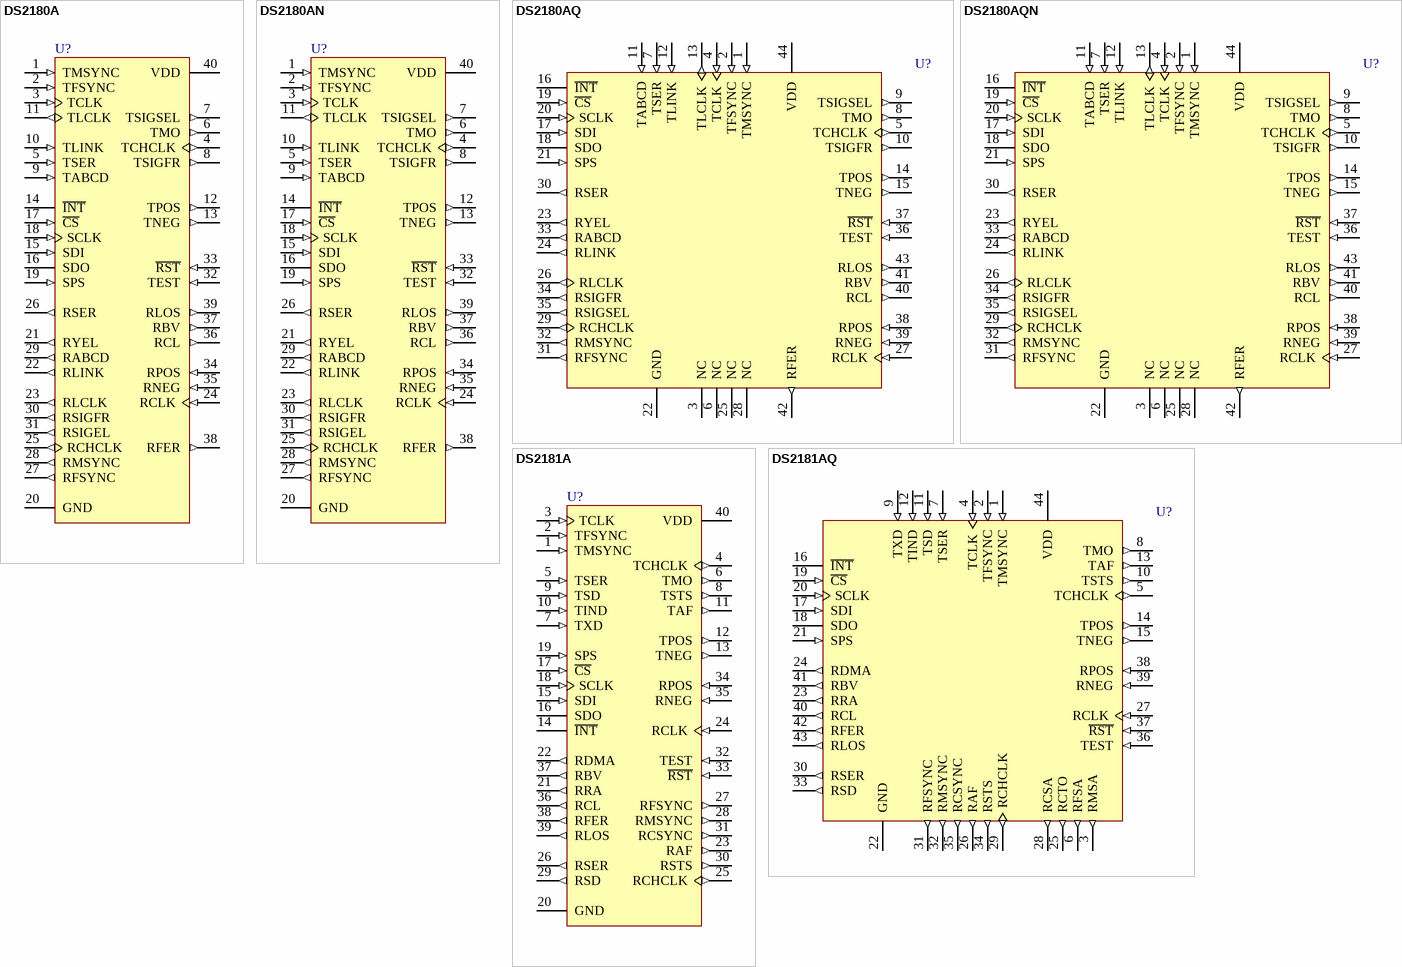
[diagram p2: symbols DS2180A to DS2181AQ]

## DS2180A
designator U?
T1 Transceiver; Published: 13-Oct-2000; LatestRevisionDate: 17-Jul-2002; LatestRevisionNote: Re-released for DXP Platform.; DatasheetVersion: 27-Feb-1998; PackageVersion: 1999; PackageReference: DIP40; Publisher: Altium Limited; PackageDescription: DIP, 40-Pin, Row Spacing 15.24 mm, Pitch 2.54 mm; ComponentLink1Description: Manufacturer Link; ComponentLink1URL: http://www.maxim-ic.com/; ComponentLink2Description: Datasheet; ComponentLink2URL: http://pdfserv.maxim-ic.com/en/ds/DS2180A-DS2180AQN.pdf
footprint DIP40 (DIP, 40-Leads, Row Spacing 15.24mm, Pitch 2.54mm, Body 52.39x13.72mm)
pins: 1 TMSYNC (in), 2 TFSYNC (in), 3 TCLK (in), 4 TCHCLK (out), 5 TSER (in), 6 TMO (out), 7 TSIGSEL (out), 8 TSIGFR (out), 9 TABCD (in), 10 TLINK (in), 11 TLCLK (out), 12 TPOS (out), 13 TNEG (out), 14 ~{INT} (oc), 15 SDI (in), 16 SDO (hiz), 17 ~{CS} (in), 18 SCLK (in), 19 SPS (in), 20 GND (power), 21 RYEL (out), 22 RLINK (out), 23 RLCLK (out), 24 RCLK (in), 25 RCHCLK (out), 26 RSER (out), 27 RFSYNC (out), 28 RMSYNC (out), 29 RABCD (out), 30 RSIGFR (out), 31 RSIGEL (out), 32 TEST (in), 33 ~{RST} (in), 34 RPOS (in), 35 RNEG (in), 36 RCL (out), 37 RBV (out), 38 RFER (out), 39 RLOS (out), 40 VDD (power)

## DS2180AN
designator U?
T1 Transceiver; Published: 13-Oct-2000; LatestRevisionDate: 17-Jul-2002; LatestRevisionNote: Re-released for DXP Platform.; DatasheetVersion: 27-Feb-1998; PackageVersion: 1999; PackageReference: DIP40; Publisher: Altium Limited; PackageDescription: DIP, 40-Pin, Row Spacing 15.24 mm, Pitch 2.54 mm; ComponentLink1Description: Manufacturer Link; ComponentLink1URL: http://www.maxim-ic.com/; ComponentLink2Description: Datasheet; ComponentLink2URL: http://pdfserv.maxim-ic.com/en/ds/DS2180A-DS2180AQN.pdf
footprint DIP40 (DIP, 40-Leads, Row Spacing 15.24mm, Pitch 2.54mm, Body 52.39x13.72mm)
pins: 1 TMSYNC (in), 2 TFSYNC (in), 3 TCLK (in), 4 TCHCLK (out), 5 TSER (in), 6 TMO (out), 7 TSIGSEL (out), 8 TSIGFR (out), 9 TABCD (in), 10 TLINK (in), 11 TLCLK (out), 12 TPOS (out), 13 TNEG (out), 14 ~{INT} (oc), 15 SDI (in), 16 SDO (hiz), 17 ~{CS} (in), 18 SCLK (in), 19 SPS (in), 20 GND (power), 21 RYEL (out), 22 RLINK (out), 23 RLCLK (out), 24 RCLK (in), 25 RCHCLK (out), 26 RSER (out), 27 RFSYNC (out), 28 RMSYNC (out), 29 RABCD (out), 30 RSIGFR (out), 31 RSIGEL (out), 32 TEST (in), 33 ~{RST} (in), 34 RPOS (in), 35 RNEG (in), 36 RCL (out), 37 RBV (out), 38 RFER (out), 39 RLOS (out), 40 VDD (power)

## DS2180AQ
designator U?
T1 Transceiver; Note: Pin numbers 3, 6, 25 and 28 are Not Connected (NC); Published: 13-Oct-2000; LatestRevisionDate: 13-Apr-2006; LatestRevisionNote: IPC-7351 Footprint Added.; DatasheetVersion: 27-Feb-1998; PackageVersion: 1999; PackageReference: PLCC44; Publisher: Altium Limited; PackageDescription: 44-Pin Leaded Chip Carrier 1.27 mm Pitch; Code_IPC: PLCC-44; ComponentLink1Description: Manufacturer Link; ComponentLink1URL: http://www.maxim-ic.com/; ComponentLink2Description: Datasheet; ComponentLink2URL: http://pdfserv.maxim-ic.com/en/ds/DS2180A-DS2180AQN.pdf
footprint PLCC44_N (Leaded Chip Carrier, 44-Leads, Body 16.6x16.6mm, Pitch 1.27mm, IPC Medium Density)
footprint PLCC44_L (Leaded Chip Carrier, 44-Leads, Body 16.6x16.6mm, Pitch 1.27mm, IPC High Density)
footprint PLCC44_M (Leaded Chip Carrier, 44-Leads, Body 16.6x16.6mm, Pitch 1.27mm, IPC Low Density)
pins: 1 TMSYNC (in), 2 TFSYNC (in), 3 NC, 4 TCLK (in), 5 TCHCLK (out), 6 NC, 7 TSER (in), 8 TMO (out), 9 TSIGSEL (out), 10 TSIGFR (out), 11 TABCD (in), 12 TLINK (in), 13 TLCLK (out), 14 TPOS (out), 15 TNEG (out), 16 ~{INT} (oc), 17 SDI (in), 18 SDO (hiz), 19 ~{CS} (in), 20 SCLK (in), 21 SPS (in), 22 GND (power), 23 RYEL (out), 24 RLINK (out), 25 NC, 26 RLCLK (out), 27 RCLK (in), 28 NC, 29 RCHCLK (out), 30 RSER (out), 31 RFSYNC (out), 32 RMSYNC (out), 33 RABCD (out), 34 RSIGFR (out), 35 RSIGSEL (out), 36 TEST (in), 37 ~{RST} (in), 38 RPOS (in), 39 RNEG (in), 40 RCL (out), 41 RBV (out), 42 RFER (out), 43 RLOS (out), 44 VDD (power)

## DS2180AQN
designator U?
T1 Transceiver; Note: Pin numbers 3, 6, 25 and 28 are Not Connected (NC); Published: 13-Oct-2000; LatestRevisionDate: 13-Apr-2006; LatestRevisionNote: IPC-7351 Footprint Added.; DatasheetVersion: 27-Feb-1998; PackageVersion: 1999; PackageReference: PLCC44; Publisher: Altium Limited; PackageDescription: 44-Pin Leaded Chip Carrier 1.27 mm Pitch; Code_IPC: PLCC-44; ComponentLink1Description: Manufacturer Link; ComponentLink1URL: http://www.maxim-ic.com/; ComponentLink2Description: Datasheet; ComponentLink2URL: http://pdfserv.maxim-ic.com/en/ds/DS2180A-DS2180AQN.pdf
footprint PLCC44_N (Leaded Chip Carrier, 44-Leads, Body 16.6x16.6mm, Pitch 1.27mm, IPC Medium Density)
footprint PLCC44_L (Leaded Chip Carrier, 44-Leads, Body 16.6x16.6mm, Pitch 1.27mm, IPC High Density)
footprint PLCC44_M (Leaded Chip Carrier, 44-Leads, Body 16.6x16.6mm, Pitch 1.27mm, IPC Low Density)
pins: 1 TMSYNC (in), 2 TFSYNC (in), 3 NC, 4 TCLK (in), 5 TCHCLK (out), 6 NC, 7 TSER (in), 8 TMO (out), 9 TSIGSEL (out), 10 TSIGFR (out), 11 TABCD (in), 12 TLINK (in), 13 TLCLK (out), 14 TPOS (out), 15 TNEG (out), 16 ~{INT} (oc), 17 SDI (in), 18 SDO (hiz), 19 ~{CS} (in), 20 SCLK (in), 21 SPS (in), 22 GND (power), 23 RYEL (out), 24 RLINK (out), 25 NC, 26 RLCLK (out), 27 RCLK (in), 28 NC, 29 RCHCLK (out), 30 RSER (out), 31 RFSYNC (out), 32 RMSYNC (out), 33 RABCD (out), 34 RSIGFR (out), 35 RSIGSEL (out), 36 TEST (in), 37 ~{RST} (in), 38 RPOS (in), 39 RNEG (in), 40 RCL (out), 41 RBV (out), 42 RFER (out), 43 RLOS (out), 44 VDD (power)

## DS2181A
designator U?
CEPT Primary Rate Transceiver; Published: 13-Oct-2000; LatestRevisionDate: 17-Jul-2002; LatestRevisionNote: Re-released for DXP Platform.; DatasheetVersion: 27-Feb-1998; PackageVersion: 1999; PackageReference: DIP40; Publisher: Altium Limited; PackageDescription: DIP, 40-Pin, Row Spacing 15.24 mm, Pitch 2.54 mm; ComponentLink1Description: Manufacturer Link; ComponentLink1URL: http://www.maxim-ic.com/; ComponentLink2Description: Datasheet; ComponentLink2URL: http://pdfserv.maxim-ic.com/en/ds/DS2181A.pdf
footprint DIP40 (DIP, 40-Leads, Row Spacing 15.24mm, Pitch 2.54mm, Body 52.39x13.72mm)
pins: 1 TMSYNC (in), 2 TFSYNC (in), 3 TCLK (in), 4 TCHCLK (out), 5 TSER (in), 6 TMO (out), 7 TXD (in), 8 TSTS (out), 9 TSD (in), 10 TIND (in), 11 TAF (out), 12 TPOS (out), 13 TNEG (out), 14 ~{INT} (oc), 15 SDI (in), 16 SDO (hiz), 17 ~{CS} (in), 18 SCLK (in), 19 SPS (in), 20 GND (power), 21 RRA (out), 22 RDMA (out), 23 RAF (out), 24 RCLK (in), 25 RCHCLK (out), 26 RSER (out), 27 RFSYNC (out), 28 RMSYNC (out), 29 RSD (out), 30 RSTS (out), 31 RCSYNC (out), 32 TEST (in), 33 ~{RST} (in), 34 RPOS (in), 35 RNEG (in), 36 RCL (out), 37 RBV (out), 38 RFER (out), 39 RLOS (out), 40 VDD (power)

## DS2181AQ
designator U?
CEPT Primary Rate Transceiver; Published: 13-Oct-2000; LatestRevisionDate: 13-Apr-2006; LatestRevisionNote: IPC-7351 Footprint Added.; DatasheetVersion: 27-Feb-1998; PackageVersion: 1999; PackageReference: PLCC44; Publisher: Altium Limited; PackageDescription: 44-Pin Leaded Chip Carrier 1.27 mm Pitch; Code_IPC: PLCC-44; ComponentLink1Description: Manufacturer Link; ComponentLink1URL: http://www.maxim-ic.com/; ComponentLink2Description: Datasheet; ComponentLink2URL: http://pdfserv.maxim-ic.com/en/ds/DS2181A.pdf
footprint PLCC44_N (Leaded Chip Carrier, 44-Leads, Body 16.6x16.6mm, Pitch 1.27mm, IPC Medium Density)
footprint PLCC44_L (Leaded Chip Carrier, 44-Leads, Body 16.6x16.6mm, Pitch 1.27mm, IPC High Density)
footprint PLCC44_M (Leaded Chip Carrier, 44-Leads, Body 16.6x16.6mm, Pitch 1.27mm, IPC Low Density)
pins: 1 TMSYNC (in), 2 TFSYNC (in), 3 RMSA (out), 4 TCLK (in), 5 TCHCLK (out), 6 RFSA (out), 7 TSER (in), 8 TMO (out), 9 TXD (in), 10 TSTS (out), 11 TSD (in), 12 TIND (in), 13 TAF (out), 14 TPOS (out), 15 TNEG (out), 16 ~{INT} (oc), 17 SDI (in), 18 SDO (hiz), 19 ~{CS} (in), 20 SCLK (in), 21 SPS (in), 22 GND (power), 23 RRA (out), 24 RDMA (out), 25 RCTO (out), 26 RAF (out), 27 RCLK (in), 28 RCSA (out), 29 RCHCLK (out), 30 RSER (out), 31 RFSYNC (out), 32 RMSYNC (out), 33 RSD (out), 34 RSTS (out), 35 RCSYNC (out), 36 TEST (in), 37 ~{RST} (in), 38 RPOS (in), 39 RNEG (in), 40 RCL (out), 41 RBV (out), 42 RFER (out), 43 RLOS (out), 44 VDD (power)